# EAGLE library part LM324N/NOPB (library LM324N_NOPB)
Check availability <https://pricing.snapeda.com/parts/LM324N/Texas%20Instruments/view-part?ref=eda>
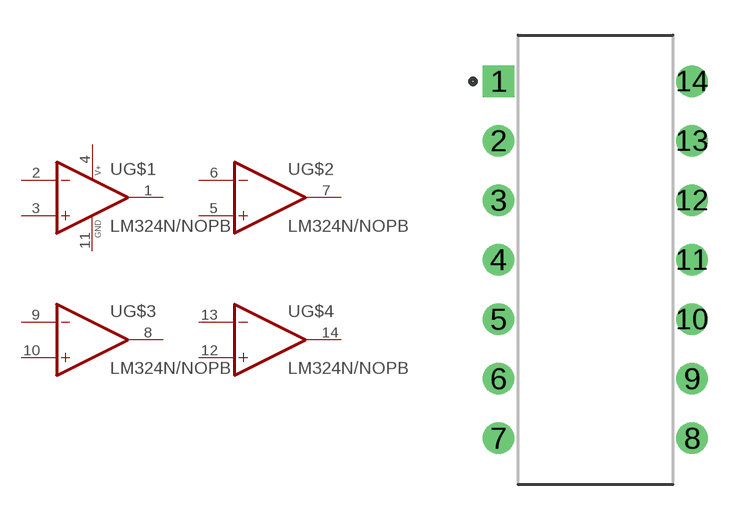
[diagram p0: symbol with the pads of DIP825W47P254L1917H533Q14; footprint DIP825W47P254L1917H533Q14]

Designator prefix -; gates G$1=LM324N/NOPB_SECTION1 G$2=LM324N/NOPB_SECTION2 G$3=LM324N/NOPB_SECTION3 G$4=LM324N/NOPB_SECTION4

## LM324N/NOPB (Availability: In Stock; Check_prices: https://www.snapeda.com/parts/LM324N/Texas+Instruments/view-part/?ref=eda; Description: Quad 30-V 1.2-MHz operational amplifier; MF: Texas Instruments; MP: LM324N; Package: PDIP-14 Texas Instruments; Price: None; Purchase-URL: https://www.snapeda.com/api/url_track_click_mouser/?unipart_id=295&manufacturer=Texas Instruments&part_name=LM324N&search_term=None; SnapEDA_Link: https://www.snapeda.com/parts/LM324N/Texas+Instruments/view-part/?ref=snap)  [DIP825W47P254L1917H533Q14]
1  G$1:1OUT  out
2  G$1:1IN-  in
3  G$1:1IN+  in
4  G$1:V+  pwr
5  G$2:2IN+  in
6  G$2:2IN-  in
7  G$2:2OUT  out
8  G$3:3OUT  out
9  G$3:3IN-  in
10  G$3:3IN+  in
11  G$1:GND  pwr
12  G$4:4IN+  in
13  G$4:4IN-  in
14  G$4:4OUT  out

## Footprint DIP825W47P254L1917H533Q14 (pad centres in mm)
drill 0.83 pad 1.18 square: 1 -4.128,7.62
drill 0.83 pad 1.18: 2 -4.128,5.08; 3 -4.128,2.54; 4 -4.128,0; 5 -4.128,-2.54; 6 -4.128,-5.08; 7 -4.128,-7.62; 8 4.128,-7.62; 9 4.128,-5.08; 10 4.128,-2.54; 11 4.128,0; 12 4.128,2.54; 13 4.128,5.08; 14 4.128,7.62